# EAGLE library part TEENSY2 (library untitled)
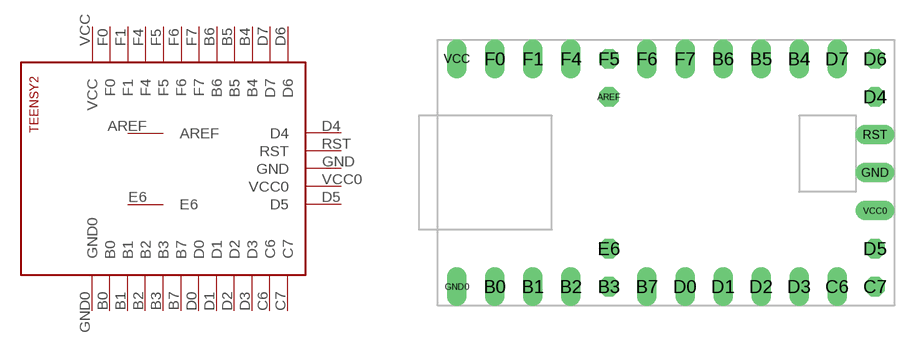
[diagram p22: symbol with the pads of TEENSY2; footprint TEENSY2]

Designator prefix -

## TEENSY2  [TEENSY2]
AREF  AREF
B0  B0
B1  B1
B2  B2
B3  B3
B4  B4
B5  B5
B6  B6
B7  B7
C6  C6
C7  C7
D0  D0
D1  D1
D2  D2
D3  D3
D4  D4
D5  D5
D6  D6
D7  D7
E6  E6
F0  F0
F1  F1
F4  F4
F5  F5
F6  F6
F7  F7
GND  GND
GND0  GND0
RST  RST
VCC  VCC
VCC0  VCC0

## Footprint TEENSY2 (pad centres in mm)
drill 0.8 octagon: AREF -3.81,5.08; B3 -3.81,-7.62; C7 13.97,-7.62; D4 13.97,5.08; D5 13.97,-5.08; D6 13.97,7.62; E6 -3.81,-5.08; F5 -3.81,7.62
drill 0.8 long: B0 -11.43,-7.62; B1 -8.89,-7.62; B2 -6.35,-7.62; B4 8.89,7.62; B5 6.35,7.62; B6 3.81,7.62; B7 -1.27,-7.62; C6 11.43,-7.62; D0 1.27,-7.62; D1 3.81,-7.62; D2 6.35,-7.62; D3 8.89,-7.62; D7 11.43,7.62; F0 -11.43,7.62; F1 -8.89,7.62; F4 -6.35,7.62; F6 -1.27,7.62; F7 1.27,7.62; GND 13.97,0; GND0 -13.97,-7.62; RST 13.97,2.54; VCC -13.97,7.62; VCC0 13.97,-2.54